# Altium schematic symbol library RobotDriverSCHLib.SchLib: 44 symbols
Pins are listed as number, name and electrical type; pins without a type are passive.

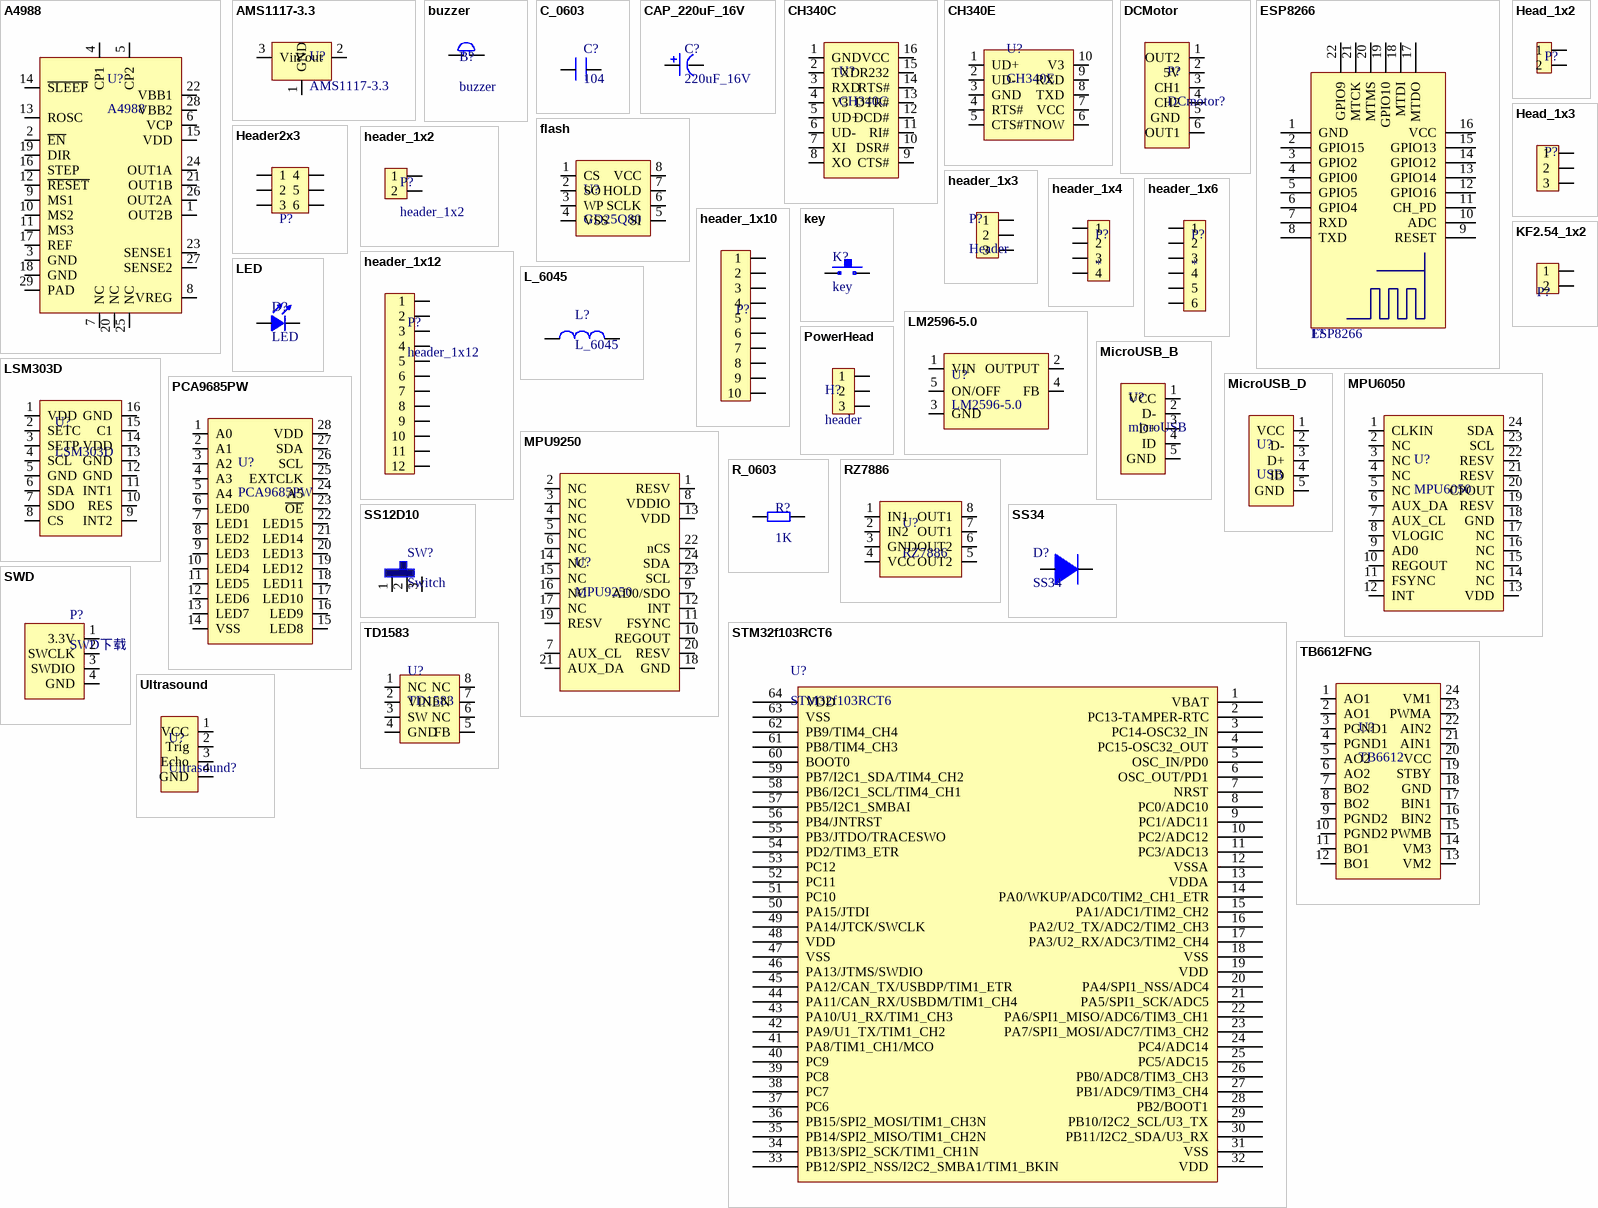
[diagram p0: symbols A4988 to Ultrasound]

## A4988
designator U?
footprint QFN28 5x5 (28脚，长x宽x高：5x5x0.8mm，脚距：0.5mm)
pins: 1 OUT2B, 2 ~{EN}, 3 GND, 4 CP1, 5 CP2, 6 VCP, 7 NC, 8 VREG, 9 MS1, 10 MS2, 11 MS3, 12 ~{RESET}, 13 ROSC, 14 ~{SLEEP}, 15 VDD, 16 STEP, 17 REF, 18 GND, 19 DIR, 20 NC, 21 OUT1B, 22 VBB1, 23 SENSE1, 24 OUT1A, 25 NC, 26 OUT2A, 27 SENSE2, 28 VBB2, 29 PAD

## AMS1117-3.3
designator U?
footprint SOT-223
pins: 1 GND, 2 Vout, 3 Vin

## buzzer
designator B?
footprint BEEP 5x9x5.5 (5*9*5.5mm(脚距,直径,高度))
pins: 1, 2

## C_0603
designator C?, comment 104
footprint C 0603 (无极性贴片电容)
pins: 1, 2

## CAP_220uF_16V
designator C?, comment 220uF_16V
footprint CM D(6.3*7.7) (贴片电解电容，直径6.3mm，高7.7mm)
pins: 1, 2

## CH340C
designator U?
footprint SOP16 (（蒜米工坊）)
pins: 1 GND, 2 TXD, 3 RXD, 4 V3, 5 UD+, 6 UD-, 7 XI, 8 XO, 9 CTS#, 10 DSR#, 11 RI#, 12 DCD#, 13 DTR#, 14 RTS#, 15 R232, 16 VCC

## CH340E
designator U?
footprint CH340E
pins: 1 UD+, 2 UD-, 3 GND, 4 RTS#, 5 CTS#, 6 TNOW, 7 VCC, 8 TXD, 9 RXD, 10 V3

## DCMotor
designator P?, comment DCmotor?
footprint XH2.54-WI-6P (接插件，6P)
pins: 1 OUT2, 2 5V, 3 CH1, 4 CH2, 5 GND, 6 OUT1

## ESP8266
designator 1?
footprint ESP8266
footprint ESP8266
pins: 1 GND (oe), 2 GPIO15, 3 GPIO2, 4 GPIO0, 5 GPIO5, 6 GPIO4, 7 RXD, 8 TXD, 9 RESET, 10 ADC, 11 CH_PD, 12 GPIO16, 13 GPIO14, 14 GPIO12, 15 GPIO13, 16 VCC, 17 MTDO, 18 MTDI, 19 GPIO10, 20 MTMS, 21 MTCK, 22 GPIO9

## flash
designator U?, comment GD25Q80
footprint SOP8 (5*6*1.8mm（长宽高）)
pins: 1 CS, 2 SO, 3 WP, 4 VSS, 5 SI, 6 SCLK, 7 HOLD, 8 VCC

## Head_1x2
designator P?  (value not drawn)
footprint HDR2.54-LI-2P (排针，2脚)
pins: 1, 2

## Head_1x3
designator P?  (value not drawn)
footprint HDR2.54-LI-3P (排针，3脚)
pins: 1, 2, 3

## Header2x3
designator P?  (value not drawn)
footprint HDR2.54-LI-2x3P (双排排针，3x2脚)
pins: 1, 2, 3, 4, 5, 6

## header_1x2
designator P?
footprint HDR2.54-LI-2P (排针，2脚)
footprint XH2.54-WI-2P (接插件，2P)
pins: 1, 2

## header_1x3
designator P?, comment Header
footprint HDR2.54-LI-3P (排针，3脚)
footprint XH2.54-WS-3P (长：12.5mm，宽：8mm，高：6.1mm)
footprint XH2.54-WI-3P (接插件，3P)
pins: 1, 2, 3

## header_1x4
designator P?
footprint HDR2.54-LI-4P (排针，4脚)
footprint XH2.54-WS-4P (长：15mm，宽：8mm，高：6.1mm)
footprint XH2.54-WI-4P (接插件，4P)
pins: 1, 2, 3, 4

## header_1x6
designator P?
footprint HDR2.54-M-LI-6P (排母，6脚)
pins: 1, 2, 3, 4, 5, 6

## header_1x10
designator P?  (value not drawn)
footprint HDR2.54-LI-10P (排针，10脚)
pins: 1, 2, 3, 4, 5, 6, 7, 8, 9, 10

## header_1x12
designator P?
footprint HDR2.54-LI-12P (排针，13脚)
pins: 1, 2, 3, 4, 5, 6, 7, 8, 9, 10, 11, 12

## key
designator K?
footprint TSW SMD-3*6*4.3 (3*6*4.3mm)
pins: 1, 2

## KF2.54_1x2
designator P?  (value not drawn)
footprint KF2EDGK-2.54-WI-2P (长：6.93mm，宽：10.1mm，高：8.1mm)
pins: 1, 2

## L_6045
designator L?
footprint NR6045 (6.0mm*6.0mm*4.5mm(长*宽*高）)
pins: 1, 2

## LED
designator D?
footprint LED 0603R (红色0603LED)
pins: 1, 2

## LM2596-5.0
designator U?
footprint TO263-5A (263，5脚晶体管)
pins: 1 VIN, 2 OUTPUT, 3 GND, 4 FB, 5 ON/OFF

## LSM303D
designator U?
footprint LGA100P9X9-81A
pins: 1 VDD, 2 SETC, 3 SETP, 4 SCL, 5 GND, 6 SDA, 7 SDO, 8 CS, 9 INT2, 10 RES, 11 INT1, 12 GND, 13 GND, 14 VDD, 15 C1, 16 GND

## MicroUSB_B
designator U?, comment microUSB
footprint USB-MICRO_B (micro型USB ，5.9*8.2*2.5mm)
pins: 1 VCC, 2 D-, 3 D+, 4 ID, 5 GND

## MicroUSB_D
designator U?, comment USB
footprint USB-MICRO_D (micro型USB ，6.7*7.5*2.5mm)
footprint USB-MICRO_D (micro型USB ，6.7*7.5*2.5mm)
pins: 1 VCC, 2 D-, 3 D+, 4 ID, 5 GND

## MPU6050
designator U?
footprint QFN24 4x4 (24脚，长x宽x高：4x4x1mm，脚距：0.5mm)
pins: 1 CLKIN, 2 NC, 3 NC, 4 NC, 5 NC, 6 AUX_DA, 7 AUX_CL, 8 VLOGIC, 9 AD0, 10 REGOUT, 11 FSYNC, 12 INT, 13 VDD, 14 NC, 15 NC, 16 NC, 17 NC, 18 GND, 19 RESV, 20 CPOUT, 21 RESV, 22 RESV, 23 SCL, 24 SDA

## MPU9250
designator U?
footprint QFN24_3x3 (QFN, 24-Leads, Body 3.00x3.00mm, Pitch 0.40mm/0.50mm, Thermal Pad 1.54x1.70mm, IPC Medium Density)
pins: 1 RESV, 2 NC, 3 NC, 4 NC, 5 NC, 6 NC, 7 AUX_CL, 8 VDDIO, 9 AD0/SDO, 10 REGOUT, 11 FSYNC, 12 INT, 13 VDD, 14 NC, 15 NC, 16 NC, 17 NC, 18 GND, 19 RESV, 20 RESV, 21 AUX_DA, 22 nCS, 23 SCL, 24 SDA

## PCA9685PW
designator U?
footprint TSSOP28 (9.8*6.4*1mm（长宽高）)
pins: 1 A0, 2 A1, 3 A2, 4 A3, 5 A4, 6 LED0, 7 LED1, 8 LED2, 9 LED3, 10 LED4, 11 LED5, 12 LED6, 13 LED7, 14 VSS, 15 LED8, 16 LED9, 17 LED10, 18 LED11, 19 LED12, 20 LED13, 21 LED14, 22 LED15, 23 ~{OE}, 24 A5, 25 EXTCLK, 26 SCL, 27 SDA, 28 VDD

## PowerHead
designator H?, comment header
pins: 1, 2, 3

## R_0603
designator R?, comment 1K
footprint 0603R
pins: 1, 2

## RZ7886
designator U?
footprint DIP8 (8脚300mil直插集成电路（蒜米工坊）)
pins: 1 IN1, 2 IN2, 3 GND, 4 VCC, 5 OUT2, 6 OUT2, 7 OUT1, 8 OUT1

## SS12D10
designator SW?, comment Switch
footprint SS12D10
pins: 1, 2, 3

## SS34
designator D?
footprint SMA (4.5x2.6*2.2mm（长宽高，不包括引脚）)
pins: 1, 2

## STM32f103RCT6
designator U?
footprint LQFP_64 (LQFP, 64-Leads, Body 10.00x10.00mm, Pitch 0.50mm)
pins: 1 VBAT, 2 PC13-TAMPER-RTC, 3 PC14-OSC32_IN, 4 PC15-OSC32_OUT, 5 OSC_IN/PD0, 6 OSC_OUT/PD1, 7 NRST, 8 PC0/ADC10, 9 PC1/ADC11, 10 PC2/ADC12, 11 PC3/ADC13, 12 VSSA, 13 VDDA, 14 PA0/WKUP/ADC0/TIM2_CH1_ETR, 15 PA1/ADC1/TIM2_CH2, 16 PA2/U2_TX/ADC2/TIM2_CH3, 17 PA3/U2_RX/ADC3/TIM2_CH4, 18 VSS, 19 VDD, 20 PA4/SPI1_NSS/ADC4, 21 PA5/SPI1_SCK/ADC5, 22 PA6/SPI1_MISO/ADC6/TIM3_CH1, 23 PA7/SPI1_MOSI/ADC7/TIM3_CH2, 24 PC4/ADC14, 25 PC5/ADC15, 26 PB0/ADC8/TIM3_CH3, 27 PB1/ADC9/TIM3_CH4, 28 PB2/BOOT1, 29 PB10/I2C2_SCL/U3_TX, 30 PB11/I2C2_SDA/U3_RX, 31 VSS, 32 VDD, 33 PB12/SPI2_NSS/I2C2_SMBA1/TIM1_BKIN, 34 PB13/SPI2_SCK/TIM1_CH1N, 35 PB14/SPI2_MISO/TIM1_CH2N, 36 PB15/SPI2_MOSI/TIM1_CH3N, 37 PC6, 38 PC7, 39 PC8, 40 PC9, 41 PA8/TIM1_CH1/MCO, 42 PA9/U1_TX/TIM1_CH2, 43 PA10/U1_RX/TIM1_CH3, 44 PA11/CAN_RX/USBDM/TIM1_CH4, 45 PA12/CAN_TX/USBDP/TIM1_ETR, 46 PA13/JTMS/SWDIO, 47 VSS, 48 VDD, 49 PA14/JTCK/SWCLK, 50 PA15/JTDI, 51 PC10, 52 PC11, 53 PC12, 54 PD2/TIM3_ETR, 55 PB3/JTDO/TRACESWO, 56 PB4/JNTRST, 57 PB5/I2C1_SMBAI, 58 PB6/I2C1_SCL/TIM4_CH1, 59 PB7/I2C1_SDA/TIM4_CH2, 60 BOOT0, 61 PB8/TIM4_CH3, 62 PB9/TIM4_CH4, 63 VSS, 64 VDD

## SWD
designator P?, comment SWD下载
footprint HDR2.54-WI-4P (弯脚排针，4脚)
pins: 1 3.3V, 2 SWCLK, 3 SWDIO, 4 GND

## TB6612FNG
designator U?, comment TB6612
footprint SSOP24 (8.3*7.8*1.6（蒜米工坊）)
pins: 1 AO1, 2 AO1, 3 PGND1, 4 PGND1, 5 AO2, 6 AO2, 7 BO2, 8 BO2, 9 PGND2, 10 PGND2, 11 BO1, 12 BO1, 13 VM2, 14 VM3, 15 PWMB, 16 BIN2, 17 BIN1, 18 GND, 19 STBY, 20 VCC, 21 AIN1, 22 AIN2, 23 PWMA, 24 VM1

## TD1583
designator U?
footprint SOP8 (5*6*1.8mm（长宽高）)
pins: 1 NC, 2 VIN, 3 SW, 4 GND, 5 FB, 6 NC, 7 EN, 8 NC

## Ultrasound
designator U?, comment Ultrasound?
footprint 超声波模块 (4脚)
pins: 1 VCC, 2 Trig, 3 Echo, 4 GND

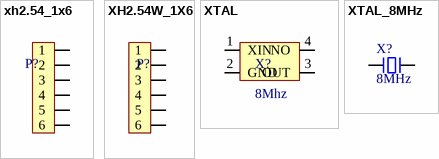
[diagram p1: symbols xh2.54_1x6 to XTAL_8MHz]

## xh2.54_1x6
designator P?, comment PS2无线手柄  (value not drawn)
footprint XH2.54-LI-6P (接插件，6P)
pins: 1, 2, 3, 4, 5, 6

## XH2.54W_1X6
designator P?  (value not drawn)
footprint XH2.54-WI-6P (接插件，6P)
pins: 1, 2, 3, 4, 5, 6

## XTAL
designator X?, comment 8Mhz
footprint OSC 3225-4P (3.2*2.5*0.7mm(长宽高))
pins: 1 XIN, 2 GND, 3 OUT, 4 NO

## XTAL_8MHz
designator X?, comment 8MHz
footprint OSC HC-49SMD
pins: 1, 2